# Altium footprint library generic 32u4 lib 1.PcbLib: 20 footprints (part 2 of 2)
Each footprint in its own frame and in the unit in brackets; x right, y up, seen from the top. Pads: shape width x height; smd on the part's side, far side on the other; paste and mask are expansions set on the pad; w line width, h text height; cw(c..) or ccw(c..) is an arc to the next point about the centre after c.
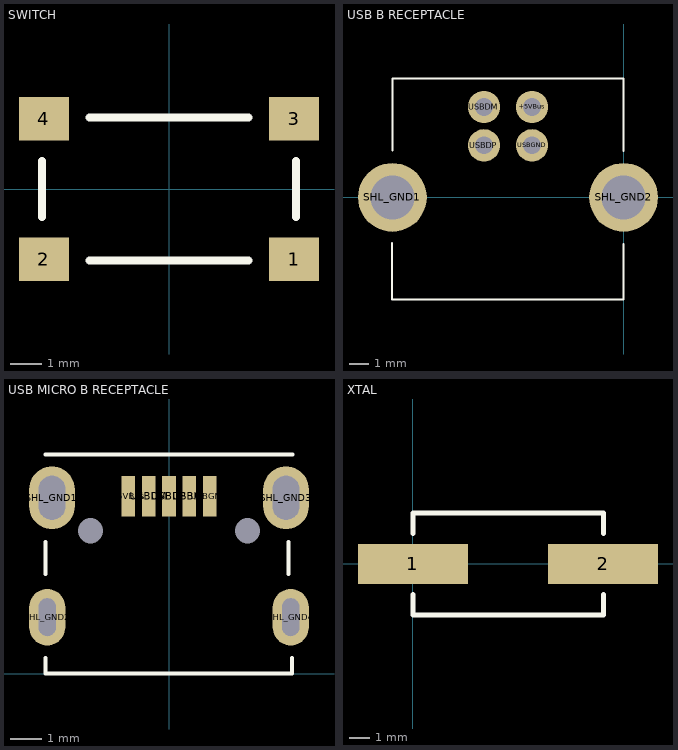
[diagram p1: the footprints below, top view; thin cyan lines are the x and y axes]

## SWITCH [mm] "SWITCH"
height 6.3
pads (4):
  rect 1.6x1.4 smd: 1(4,-2.25) 2(-4,-2.25) 3(4,2.25) 4(-4,2.25)
Top Overlay:
  lines w0.254: -4.064,-0.889 -4.064,0.889 ; -2.54,-2.286 2.54,-2.286 ; -2.54,2.286 2.54,2.286 ; 4.064,-0.889 4.064,0.889
3D body "B3FS_101[].step": height 4.3, standoff 0, extent -4,-3.15 4,3.15

## USB B RECEPTACLE [mm] "Amphenol 61729-1011BLF"
height 10.5
pads (6):
  round 1.682 hole 0.92: +5VBus(-4.77,4.71) USBDM(-7.27,4.71) USBDP(-7.27,2.71) USBGND(-4.77,2.71)
  round 3.581 hole 2.3: SHL_GND1(-12.04,0) SHL_GND2(0,0)
Top Overlay:
  lines w0.1: -12.065,-2.374 -12.065,-5.32 0,-5.32 0,-2.413 ; -12.04,2.438 -12.04,6.195 0,6.195 0,2.413
3D body "COLOR29.STEP": height 11, standoff -2.8, extent -12.612,-10.129 0.508,5.811

## USB MICRO B RECEPTACLE [mm] "Wurth Electronics Inc - 629105150521"
height 2.6
pads (11):
  rect 0.432x1.3 smd: +5VBus(-1.3,5.65) USBDM(-0.65,5.65) USBDP(0,5.65) USBGND(1.3,5.65) USBID(0.65,5.65)
  round 0 hole 0.8 unplated: H1(-2.5,4.55) H2(2.5,4.55)
  oval 1.45x2 hole 0.85 slot 1.4 at 90 deg: SHL_GND1(-3.725,5.6) SHL_GND3(3.725,5.6)
  oval 1.15x1.8 hole 0.55 slot 1.2 at 90 deg: SHL_GND2(-3.875,1.8) SHL_GND4(3.875,1.8)
Top Overlay:
  lines w0.127: -3.937,0.508 -3.937,0 3.912,0 3.912,0.508 ; -3.937,3.175 -3.937,4.191 ; -3.937,6.985 3.937,6.985 ; 3.81,3.175 3.81,4.191
  text "." at -1.397,6.604 h1.27
Top Solder:
  region: -1.651,6.477 1.651,6.477 1.651,4.826 -1.651,4.826

## XTAL [mm]
height 4.1
pads (2):
  rect 5.5x2 smd: 1(0,0) 2(9.5,0)
Top Overlay:
  lines w0.254: 0,-1.524 0,-2.54 9.525,-2.54 9.525,-1.524 ; 0,1.524 0,2.54 9.525,2.54 9.525,1.524
3D body "User Library-Crystal HC49_US-SM.STEP": height 4.3, standoff 0, extent -1.701,-2.415 11.099,2.415